# Altium schematic symbol library SamacSys.SchLib: 3 symbols
Pins are listed as number, name and electrical type; pins without a type are passive.

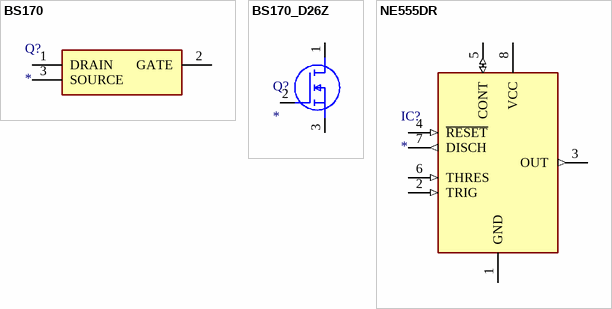
[diagram p0: symbols BS170 to NE555DR]

## BS170
designator Q?
Transistor; Manufacturer_Name: onsemi; Manufacturer_Part_Number: BS170; Datasheet Link: https://datasheet.datasheetarchive.com/originals/distributors/Datasheets-24/DSA-462429.pdf; Height: 5.33mm; Mouser Part Number: 512-BS170; Mouser Price/Stock: https://www.mouser.co.uk/ProductDetail/onsemi-Fairchild/BS170?qs=FOlmdCx%252BAA0Q%252B3zvwxJUKQ%3D%3D; Arrow Part Number: BS170; Arrow Price/Stock: https://www.arrow.com/en/products/bs170/on-semiconductor?region=nac
footprint LM431ACZ
pins: 1 DRAIN, 2 GATE, 3 SOURCE

## BS170_D26Z
designator Q?
MOSFET (N-Channel); Manufacturer_Name: onsemi; Manufacturer_Part_Number: BS170_D26Z; Description: MOSFET N-Ch 60V 0.5A TO92; Mouser Part Number: 512-BS170D26Z; Mouser Price/Stock: http://www.mouser.com/Search/ProductDetail.aspx?qs=38EqnX883HDzR6DEwmZa%2fA%3d%3d; Arrow Part Number: BS170_D26Z; Arrow Price/Stock: https://www.arrow.com/en/products/bs170-d26z/on-semiconductor?region=nac
footprint TO-92_FAIRCHILD
pins: 1 D, 2 G, 3 S

## NE555DR
designator IC?
Integrated Circuit; Manufacturer_Name: Texas Instruments; Manufacturer_Part_Number: NE555DR; Datasheet Link: http://www.ti.com/lit/ds/symlink/ne555.pdf; Height: 1.75mm; Mouser Part Number: 595-NE555DR; Mouser Price/Stock: https://www.mouser.com/Search/Refine.aspx?Keyword=595-NE555DR; RS Part Number: 1218414; RS Price/Stock: http://uk.rs-online.com/web/p/products/1218414
footprint SOIC127P600X175-8N
pins: 1 GND (power), 2 TRIG (in), 3 OUT (out), 4 ~{RESET} (in), 5 CONT (io), 6 THRES (in), 7 DISCH (out), 8 VCC (power)